# Altium footprint library urover.PCBLIB: 175 footprints (part 3 of 11)
Each footprint in its own frame and in the unit in brackets; x right, y up, seen from the top. Pads: shape width x height; smd on the part's side, far side on the other; paste and mask are expansions set on the pad; w line width, h text height; cw(c..) or ccw(c..) is an arc to the next point about the centre after c.
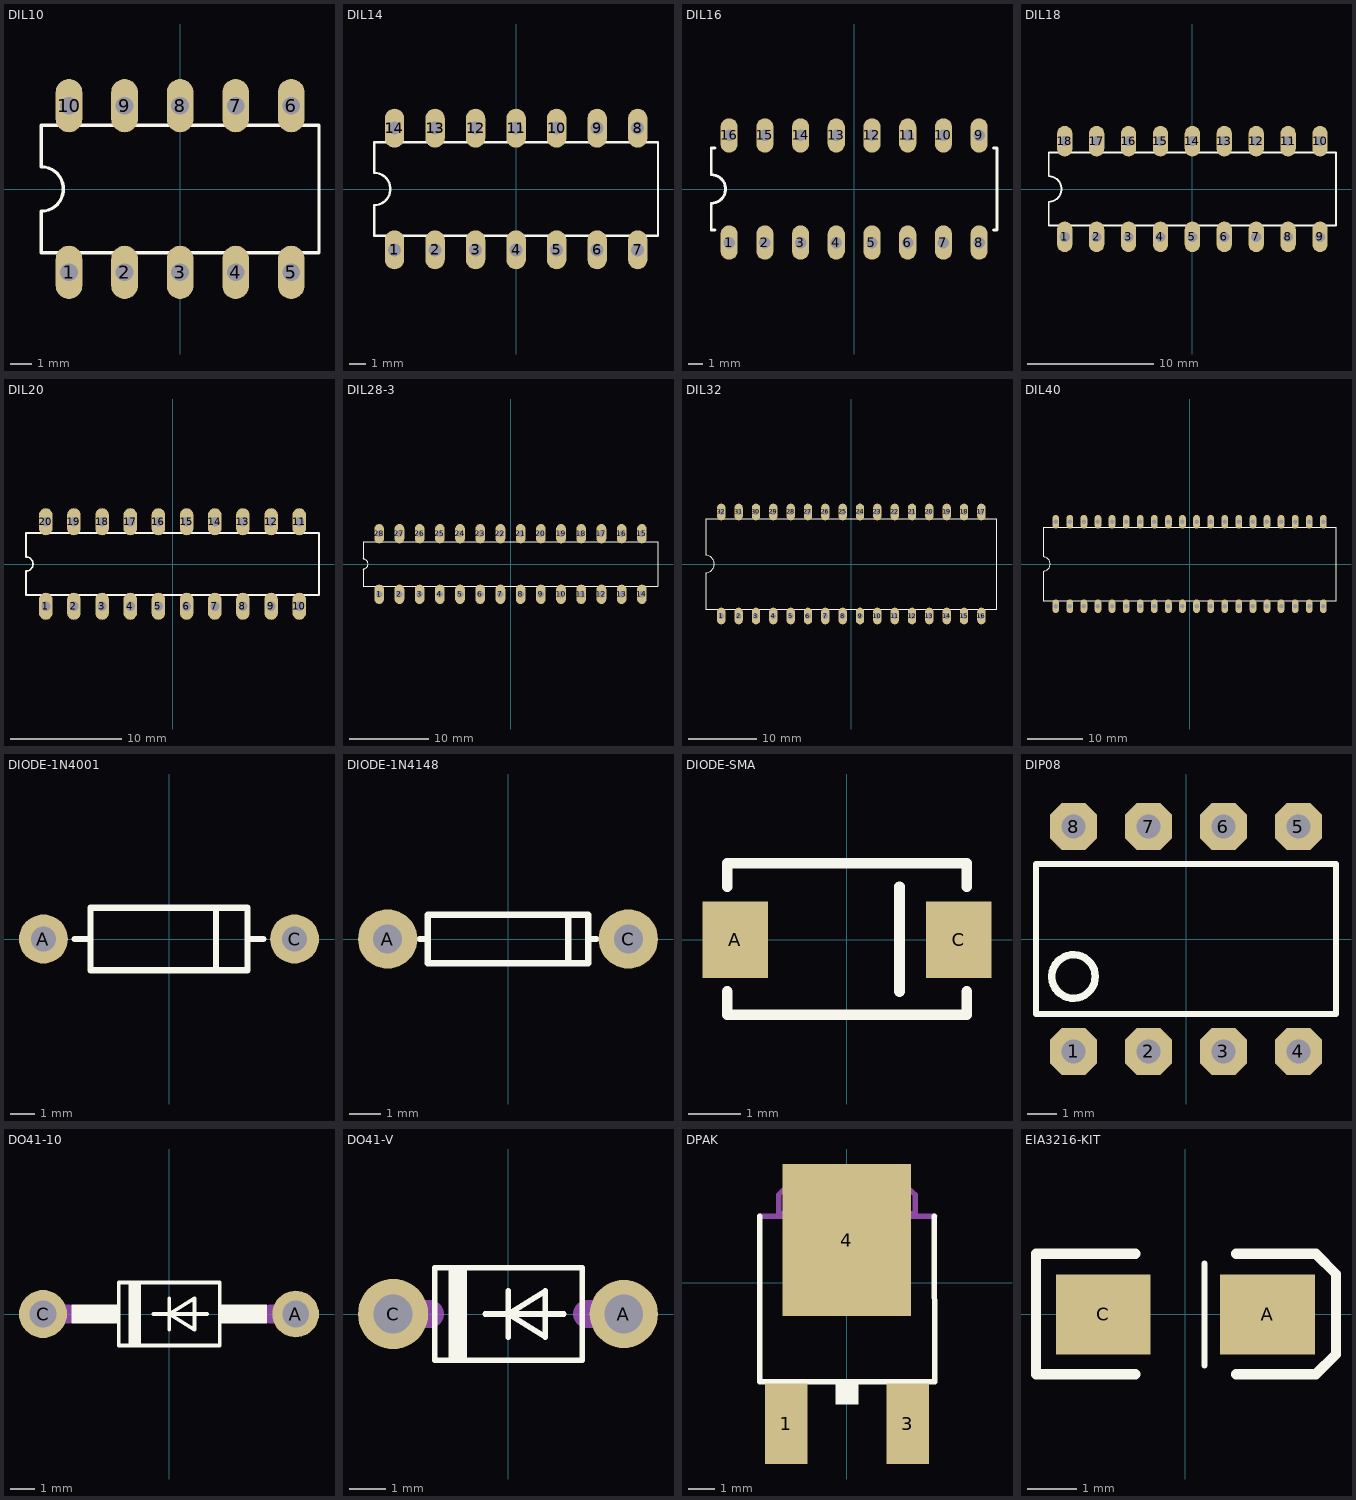
[diagram p2: the footprints below, top view; thin cyan lines are the x and y axes]

## DIL10 [mil]
pads (10):
  oval 48x96 hole 32: 1(-200,-150) 2(-100,-150) 3(0,-150) 4(100,-150) 5(200,-150) 6(200,150) 7(100,150) 8(0,150) 9(-100,150) 10(-200,150)
Top Overlay:
  lines w6: -250,-115 250,-115 250,115 -250,115 -250,40 cw(c-250,0) -250,-40 -250,-115

## DIL14 [mil]
pads (14):
  oval 48x96 hole 32: 1(-300,-150) 2(-200,-150) 3(-100,-150) 4(0,-150) 5(100,-150) 6(200,-150) 7(300,-150) 8(300,150) 9(200,150) 10(100,150) 11(0,150) 12(-100,150) 13(-200,150) 14(-300,150)
Top Overlay:
  lines w6: -350,-115 350,-115 350,115 -350,115 -350,40 cw(c-350,0) -350,-40 -350,-115

## DIL16 [mil]
pads (16):
  oval 48x96 hole 32: 1(-350,-150) 2(-250,-150) 3(-150,-150) 4(-50,-150) 5(50,-150) 6(150,-150) 7(250,-150) 8(350,-150) 9(350,150) 10(250,150) 11(150,150) 12(50,150) 13(-50,150) 14(-150,150) 15(-250,150) 16(-350,150)
Top Overlay:
  lines w8: -390,-115 -400,-115 -400,-40 ccw(c-400,0) -400,40 -400,115 -390,115 ; 390,-115 400,-115 400,115 390,115

## DIL18 [mil]
pads (18):
  oval 48x96 hole 32: 1(-400,-150) 2(-300,-150) 3(-200,-150) 4(-100,-150) 5(0,-150) 6(100,-150) 7(200,-150) 8(300,-150) 9(400,-150) 10(400,150) 11(300,150) 12(200,150) 13(100,150) 14(0,150) 15(-100,150) 16(-200,150) 17(-300,150) 18(-400,150)
Top Overlay:
  lines w6: -450,-115 450,-115 450,115 -450,115 -450,40 cw(c-450,0) -450,-40 -450,-115

## DIL20 [mil]
pads (20):
  oval 48x96 hole 32: 1(-450,-150) 2(-350,-150) 3(-250,-150) 4(-150,-150) 5(-50,-150) 6(50,-150) 7(150,-150) 8(250,-150) 9(350,-150) 10(450,-150) 11(450,150) 12(350,150) 13(250,150) 14(150,150) 15(50,150) 16(-50,150) 17(-150,150) 18(-250,150) 19(-350,150) 20(-450,150)
Top Overlay:
  lines w6: -520,-110 -520,-25 ccw(c-520,0) -520,25 -520,110 520,110 520,-110 -520,-110

## DIL28-3 [mil]
pads (28):
  oval 48x96 hole 32: 1(-650,-150) 2(-550,-150) 3(-450,-150) 4(-350,-150) 5(-250,-150) 6(-150,-150) 7(-50,-150) 8(50,-150) 9(150,-150) 10(250,-150) 11(350,-150) 12(450,-150) 13(550,-150) 14(650,-150) 15(650,150) 16(550,150) 17(450,150) 18(350,150) 19(250,150) 20(150,150) 21(50,150) 22(-50,150) 23(-150,150) 24(-250,150) 25(-350,150) 26(-450,150) 27(-550,150) 28(-650,150)
Top Overlay:
  lines w6: -730,-110 -730,-25 ccw(c-730,0) -730,25 -730,110 730,110 730,-110 -730,-110

## DIL32 [mil]
pads (32):
  oval 48x96 hole 32: 1(-750,-300) 2(-650,-300) 3(-550,-300) 4(-450,-300) 5(-350,-300) 6(-250,-300) 7(-150,-300) 8(-50,-300) 9(50,-300) 10(150,-300) 11(250,-300) 12(350,-300) 13(450,-300) 14(550,-300) 15(650,-300) 16(750,-300) 17(750,300) 18(650,300) 19(550,300) 20(450,300) 21(350,300) 22(250,300) 23(150,300) 24(50,300) 25(-50,300) 26(-150,300) 27(-250,300) 28(-350,300) 29(-450,300) 30(-550,300) 31(-650,300) 32(-750,300)
Top Overlay:
  lines w6: -840,-260 -840,-50 ccw(c-840,0) -840,50 -840,260 840,260 840,-260 -840,-260

## DIL40 [mil]
pads (40):
  oval 48x96 hole 32: 1(-950,-300) 2(-850,-300) 3(-750,-300) 4(-650,-300) 5(-550,-300) 6(-450,-300) 7(-350,-300) 8(-250,-300) 9(-150,-300) 10(-50,-300) 11(50,-300) 12(150,-300) 13(250,-300) 14(350,-300) 15(450,-300) 16(550,-300) 17(650,-300) 18(750,-300) 19(850,-300) 20(950,-300) 21(950,300) 22(850,300) 23(750,300) 24(650,300) 25(550,300) 26(450,300) 27(350,300) 28(250,300) 29(150,300) 30(50,300) 31(-50,300) 32(-150,300) 33(-250,300) 34(-350,300) 35(-450,300) 36(-550,300) 37(-650,300) 38(-750,300) 39(-850,300) 40(-950,300)
Top Overlay:
  lines w6: -1040,-260 -1040,-50 ccw(c-1040,0) -1040,50 -1040,260 1040,260 1040,-260 -1040,-260

## DIODE-1N4001 [mil]
pads (2):
  round 78 hole 40: A(-200,0) C(200,0)
Top Overlay:
  lines w10: -150,0 -125,0 ; 150,0 125,0 ; -125,0 -125,50 75,50 ; -125,0 -125,-50 75,-50 ; 75,-50 125,-50 125,0 ; 75,-50 75,50 ; 75,50 125,50 125,0

## DIODE-1N4148 [mil]
pads (2):
  round 74 hole 36: A(-150,0) C(150,0)
Top Overlay:
  lines w8: -110,0 -100,0 ; 75,-25 75,25 ; 110,0 100,0 ; -100,0 -100,-30 100,-30 100,0 ; -100,0 -100,30 100,30 100,0

## DIODE-SMA [mil]
pads (2):
  rect 50x58 smd: A(-84.65,0) C(85,0)
Top Overlay:
  lines w8: -90.55,-39.37 -90.55,-57.09 91,-57.09 91,-39.37 ; -90.55,40 -90.55,58 91,58 91,40 ; 40,-39.37 40,40

## DIP08 [mil]
pads (8):
  oct 63x63 hole 32: 1(-150,-150) 2(-50,-150) 3(50,-150) 4(150,-150) 5(150,150) 6(50,150) 7(-50,150) 8(-150,150)
Top Overlay:
  circle w10: c-150,-50 r29
  lines w8: -200,-40 -200,-60 ; -200,-60 -200,100 200,100 200,-100 -200,-100 -200,-60

## DO41-10 [mil]
pads (2):
  round 74 hole 42: A(200,0)
  round 76 hole 42: C(-200,0)
Top Overlay:
  rectangle: -65,-50 -45,50
  rectangle: 80,-15 155,15
  rectangle: -155,-15 -80,15
  lines w6: -25,0 0,0 ; 0,-25 0,0 ; 0,25 0,0 ; 60,0 0,0 ; 0,0 40,-25 40,25 0,0 ; -80,-50 80,-50 80,50 -80,50 -80,-50
Mechanical 16:
  lines w30: -200,0 -160,0 ; 160,0 200,0

## DO41-V [mil]
pads (2):
  round 74 hole 42: A(125,0)
  round 76 hole 42: C(-125,0)
Top Overlay:
  rectangle: -65,-50 -45,50
  lines w6: -25,0 0,0 ; 0,-25 0,0 ; 0,25 0,0 ; 60,0 0,0 ; 0,0 40,-25 40,25 0,0 ; -80,-50 80,-50 80,50 -80,50 -80,-50
Mechanical 16:
  lines w30: -125,0 -85,0 ; 85,0 125,0

## DPAK [mil]
pads (3):
  rect 63x119 smd: 1(-89.76,-209.06) 3(90,-209.06)
  rect 190x225 smd: 4(0,63)
Top Overlay:
  rectangle: -17,-180.81 17,-150.81
  lines w8: -129,98 -129.02,-146.81 130,-146.81 129,98
Mechanical 16:
  rectangle: -107,-264.81 -73,-150.81
  rectangle: 73,-264.81 107,-150.81
  region: 0,0 10,0 10,10 0,10
  lines w8: -129.02,98 130,98 ; -101,102 -101,130 -83,148 83,148 101,130 101,102 -101,102

## EIA3216-KIT [mil]
pads (2):
  rect 75x63 smd: A(65,0) C(-64.96,0)
Top Overlay:
  lines w5: 15,-40 15,40
  lines w8: -39.37,-47.24 -118.11,-47.24 -118.11,48 -39.37,48 ; 40,-47.24 103,-47.24 119,-31.5 119,32 103,48 40,48